# Altium footprint library M283.PcbLib: 20 footprints (part 2 of 2)
Each footprint in its own frame and in the unit in brackets; x right, y up, seen from the top. Pads: shape width x height; smd on the part's side, far side on the other; paste and mask are expansions set on the pad; w line width, h text height; cw(c..) or ccw(c..) is an arc to the next point about the centre after c.
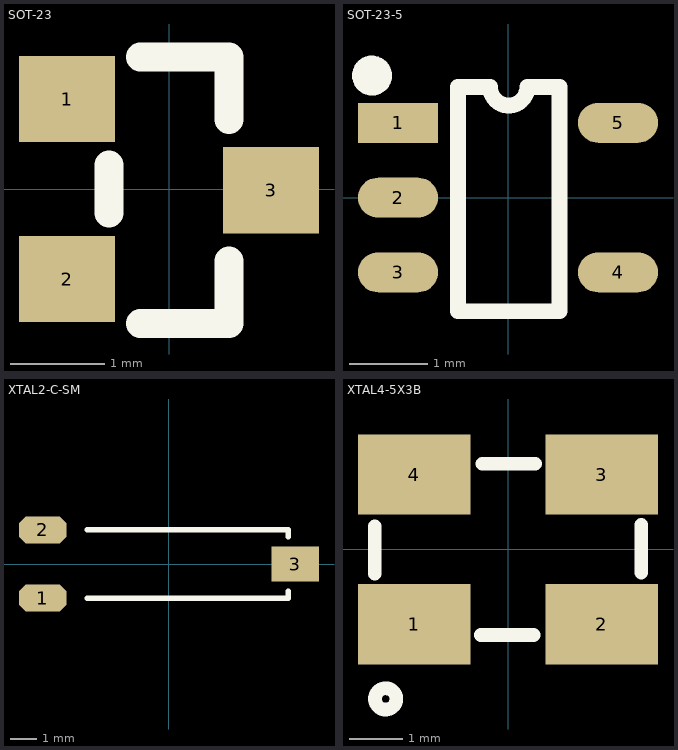
[diagram p1: the footprints below, top view; thin cyan lines are the x and y axes]

## SOT-23 [mil]
pads (3):
  rect 40x36 smd: 1(-42.5,37.5) 2(-42.5,-37.5) 3(42.5,-0.5)
Top Overlay:
  lines w12: -25,-10 -25,10 ; -12,-56 25,-56 25,-30 ; -12,55 25,55 25,29
3D body: height 39.37, standoff -0.79, extent -47,-57.48 50.48,57.48

## SOT-23-5 [mil]
pads (5):
  rect 40x20 smd: 1(-55,37.4)
  oval 40x20 smd: 2(-55,0) 3(-55,-37.4) 4(55,-37.4) 5(55,37.4)
Top Overlay:
  circle w10: c-68,61 r5
  lines w7.87: -25,55.4 -25,-56.8 25.7,-56.8 25.7,55.4 ; -9,55.4 ccw(c0.35,55.4) 9.7,55.4
  lines w8: -25,55.4 -9,55.4 ; 9.7,55.4 25.7,55.4
3D body: height 42.79, standoff -0.51, extent -55.16,-57.06 55.09,57.09

## XTAL2-C-SM [mil]
pads (3):
  oct 70x40 smd: 1(-185,-50) 2(-185,50)
  rect 70x52 smd: 3(185,0)
Top Overlay:
  lines w8: -120,-50 175,-50 175,-40 ; -120,50 175,50 175,40

## XTAL4-5X3B [mm]
pads (4):
  rect 2.1x1.5 smd: 1(-1.753,-1.397) 2(1.753,-1.397) 3(1.753,1.397) 4(-1.753,1.397)
Top Overlay:
  circle w0.254: c-2.286,-2.794 r0.2
  lines w0.254: -2.489,-0.457 -2.489,0.432 ; -0.508,-1.6 0.483,-1.6 ; -0.483,1.6 0.508,1.6 ; 2.489,-0.432 2.489,0.457